# Altium integrated library Linear Technology Operational Amplifiers (LT1000).IntLib: 2280 symbols (part 34 of 79)
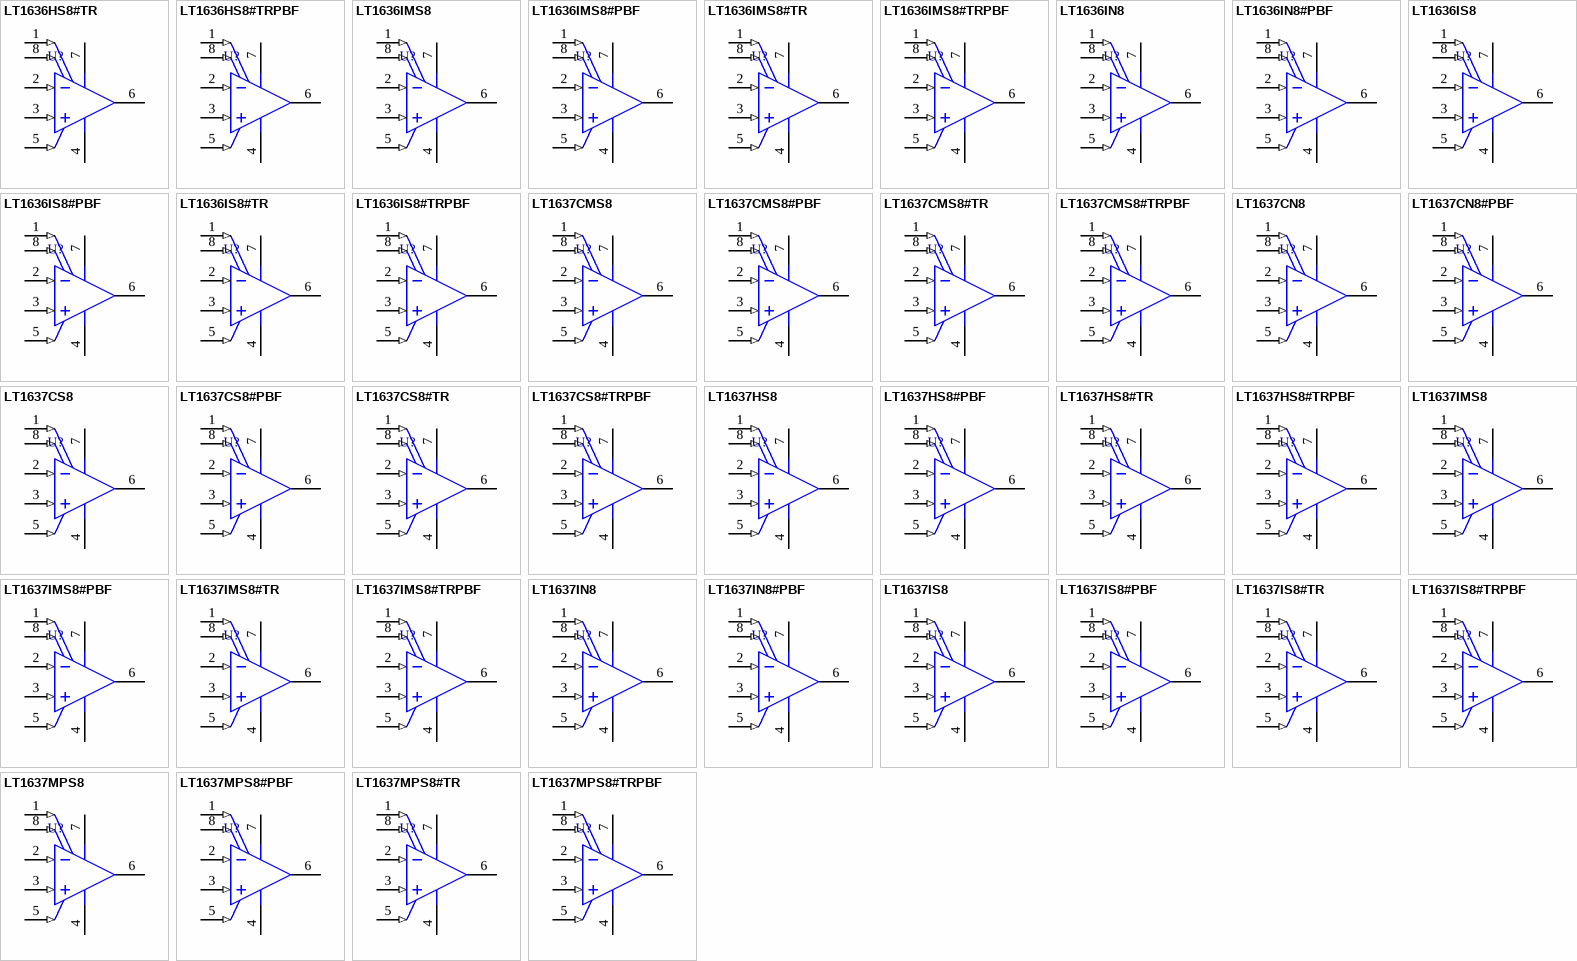
[diagram p138: symbols LT1636HS8#TR to LT1637MPS8#TRPBF]

## LT1636IMS8#TR
designator U?
Single Channel, Micropower Rail-to-Rail Operational Amplifier, 0.2 MHz Typical GBW, 0.07 V/us Typical SR, 2.6 to 44 V, 8-Pin SOP (MS8-8), Industrial, Reel; Linear Technology Part Number: LT1636; Manufacturer: Linear Technology; PartNumber: LT1636IMS8#TR; Channels (#): 1; GBW (MHz) Typical: 0.2; Is (mA) Typical: 0.042; SR (V/us) Typical: 0.07; Vos (mV) Guaranteed: 0.225; Vos (mV) Typical: 0.05; Vs Max (V): 44; Vs Min (V): 2.6; DatasheetVersion: Rev. C; PackageVersion: Rev G; PackageReference: LT-MS8-8; PackageDescription: 8-Lead Plastic Small Outline, Body 3.9 x 4.9 mm, Pitch 1.27 mm; Packing: Reel; Type: VFB; Mounting Technology: Surface Mount; ComponentLink1Description: Manufacturer URL; ComponentLink1URL: http://www.linear.com/; ComponentLink2Description: Datasheet; ComponentLink2URL: http://cds.linear.com/docs/en/datasheet/1636fc.pdf; ComponentLink3Description: Package Specification; ComponentLink3URL: http://cds.linear.com/docs/en/packaging/05081610_G_SO8.pdf
footprint LT-MS8-8_N (SOP, 8-Leads, Body 3x3mm, Pitch 0.65mm, IPC Medium Density)
footprint LT-MS8-8_L (SOP, 8-Leads, Body 3x3mm, Pitch 0.65mm, IPC High Density)
footprint LT-MS8-8_M (SOP, 8-Leads, Body 3x3mm, Pitch 0.65mm, IPC Low Density)
pins: 1 NULL (in), 2 -IN (in), 3 +IN (in), 4 V- (power), 5 SHDN (in), 6 OUT (hiz), 7 V+ (power), 8 NULL (in)

## LT1636IMS8#TRPBF
designator U?
Single Channel, Micropower Rail-to-Rail Operational Amplifier, 0.2 MHz Typical GBW, 0.07 V/us Typical SR, 2.6 to 44 V, 8-Pin SOP (MS8-8), Industrial, Pb-Free, Reel; Linear Technology Part Number: LT1636; Manufacturer: Linear Technology; PartNumber: LT1636IMS8#TRPBF; Channels (#): 1; GBW (MHz) Typical: 0.2; Is (mA) Typical: 0.042; SR (V/us) Typical: 0.07; Vos (mV) Guaranteed: 0.225; Vos (mV) Typical: 0.05; Vs Max (V): 44; Vs Min (V): 2.6; DatasheetVersion: Rev. C; PackageVersion: Rev G; PackageReference: LT-MS8-8; PackageDescription: 8-Lead Plastic Small Outline, Body 3.9 x 4.9 mm, Pitch 1.27 mm; Supplier 1: Digi-Key; Supplier Part Number 1: LT1636IMS8#TRPBF-ND; Packing: Reel; RoHS: Pb-Free; Type: VFB; Mounting Technology: Surface Mount; ComponentLink1Description: Manufacturer URL; ComponentLink1URL: http://www.linear.com/; ComponentLink2Description: Datasheet; ComponentLink2URL: http://cds.linear.com/docs/en/datasheet/1636fc.pdf; ComponentLink3Description: Package Specification; ComponentLink3URL: http://cds.linear.com/docs/en/packaging/05081610_G_SO8.pdf
footprint LT-MS8-8_N (SOP, 8-Leads, Body 3x3mm, Pitch 0.65mm, IPC Medium Density)
footprint LT-MS8-8_L (SOP, 8-Leads, Body 3x3mm, Pitch 0.65mm, IPC High Density)
footprint LT-MS8-8_M (SOP, 8-Leads, Body 3x3mm, Pitch 0.65mm, IPC Low Density)
pins: 1 NULL (in), 2 -IN (in), 3 +IN (in), 4 V- (power), 5 SHDN (in), 6 OUT (hiz), 7 V+ (power), 8 NULL (in)

## LT1636IN8
designator U?
Single Channel, Micropower Rail-to-Rail Operational Amplifier, 0.2 MHz Typical GBW, 0.07 V/us Typical SR, 2.6 to 44 V, 8-Pin DIP (N8-8), Industrial; Linear Technology Part Number: LT1636; Manufacturer: Linear Technology; PartNumber: LT1636IN8; Channels (#): 1; GBW (MHz) Typical: 0.2; Is (mA) Typical: 0.042; SR (V/us) Typical: 0.07; Vos (mV) Guaranteed: 0.225; Vos (mV) Typical: 0.05; Vs Max (V): 44; Vs Min (V): 2.6; DatasheetVersion: Rev. C; PackageVersion: Rev I; PackageReference: LT-N8-8; PackageDescription: 8-Lead PDIP, Body 10.16 x 6.48 mm, Pitch 2.54 mm; Supplier 1: Digi-Key; Supplier Part Number 1: LT1636IN8-ND; Type: VFB; Mounting Technology: Through Hole; ComponentLink1Description: Manufacturer URL; ComponentLink1URL: http://www.linear.com/; ComponentLink2Description: Datasheet; ComponentLink2URL: http://cds.linear.com/docs/en/datasheet/1636fc.pdf; ComponentLink3Description: Package Specification; ComponentLink3URL: http://cds.linear.com/docs/en/packaging/05081510_I_N8.pdf
footprint LT-N8-8 (DIP, 8-Leads, Body 10.16x6.48mm, Pitch 2.54mm)
pins: 1 NULL (in), 2 -IN (in), 3 +IN (in), 4 V- (power), 5 SHDN (in), 6 OUT (hiz), 7 V+ (power), 8 NULL (in)

## LT1636IN8#PBF
designator U?
Single Channel, Micropower Rail-to-Rail Operational Amplifier, 0.2 MHz Typical GBW, 0.07 V/us Typical SR, 2.6 to 44 V, 8-Pin DIP (N8-8), Industrial, Pb-Free; Linear Technology Part Number: LT1636; Manufacturer: Linear Technology; PartNumber: LT1636IN8#PBF; Channels (#): 1; GBW (MHz) Typical: 0.2; Is (mA) Typical: 0.042; SR (V/us) Typical: 0.07; Vos (mV) Guaranteed: 0.225; Vos (mV) Typical: 0.05; Vs Max (V): 44; Vs Min (V): 2.6; DatasheetVersion: Rev. C; PackageVersion: Rev I; PackageReference: LT-N8-8; PackageDescription: 8-Lead PDIP, Body 10.16 x 6.48 mm, Pitch 2.54 mm; Supplier 1: Digi-Key; Supplier Part Number 1: LT1636IN8#PBF-ND; RoHS: Pb-Free; Type: VFB; Mounting Technology: Surface Mount; ComponentLink1Description: Manufacturer URL; ComponentLink1URL: http://www.linear.com/; ComponentLink2Description: Datasheet; ComponentLink2URL: http://cds.linear.com/docs/en/datasheet/1636fc.pdf; ComponentLink3Description: Package Specification; ComponentLink3URL: http://cds.linear.com/docs/en/packaging/05081510_I_N8.pdf
footprint LT-N8-8 (DIP, 8-Leads, Body 10.16x6.48mm, Pitch 2.54mm)
pins: 1 NULL (in), 2 -IN (in), 3 +IN (in), 4 V- (power), 5 SHDN (in), 6 OUT (hiz), 7 V+ (power), 8 NULL (in)

## LT1636IS8
designator U?
Single Channel, Micropower Rail-to-Rail Operational Amplifier, 0.2 MHz Typical GBW, 0.07 V/us Typical SR, 2.6 to 44 V, 8-Pin SOIC (S8-8), Industrial; Linear Technology Part Number: LT1636; Manufacturer: Linear Technology; PartNumber: LT1636IS8; Channels (#): 1; GBW (MHz) Typical: 0.2; Is (mA) Typical: 0.042; SR (V/us) Typical: 0.07; Vos (mV) Guaranteed: 0.225; Vos (mV) Typical: 0.05; Vs Max (V): 44; Vs Min (V): 2.6; DatasheetVersion: Rev. C; PackageVersion: Rev G; PackageReference: LT-S8-8; PackageDescription: 8-Pin Plastic Small Outline, Body 4.9 x 3.9 mm, Pitch 1.27 mm; Supplier 1: Digi-Key; Supplier Part Number 1: LT1636IS8-ND; Type: VFB; Mounting Technology: Surface Mount; ComponentLink1Description: Manufacturer URL; ComponentLink1URL: http://www.linear.com/; ComponentLink2Description: Datasheet; ComponentLink2URL: http://cds.linear.com/docs/en/datasheet/1636fc.pdf; ComponentLink3Description: Package Specification; ComponentLink3URL: http://cds.linear.com/docs/en/packaging/05081610_G_SO8.pdf
footprint LT-S8-8_N (SOIC, 8-Leads, Body 4.9x3.9mm, Pitch 1.27mm, IPC Medium Density)
footprint LT-S8-8_L (SOIC, 8-Leads, Body 4.9x3.9mm, Pitch 1.27mm, IPC High Density)
footprint LT-S8-8_M (SOIC, 8-Leads, Body 4.9x3.9mm, Pitch 1.27mm, IPC Low Density)
pins: 1 NULL (in), 2 -IN (in), 3 +IN (in), 4 V- (power), 5 SHDN (in), 6 OUT (hiz), 7 V+ (power), 8 NULL (in)

## LT1636IS8#PBF
designator U?
Single Channel, Micropower Rail-to-Rail Operational Amplifier, 0.2 MHz Typical GBW, 0.07 V/us Typical SR, 2.6 to 44 V, 8-Pin SOIC (S8-8), Industrial, Pb-Free; Linear Technology Part Number: LT1636; Manufacturer: Linear Technology; PartNumber: LT1636IS8#PBF; Channels (#): 1; GBW (MHz) Typical: 0.2; Is (mA) Typical: 0.042; SR (V/us) Typical: 0.07; Vos (mV) Guaranteed: 0.225; Vos (mV) Typical: 0.05; Vs Max (V): 44; Vs Min (V): 2.6; DatasheetVersion: Rev. C; PackageVersion: Rev G; PackageReference: LT-S8-8; PackageDescription: 8-Pin Plastic Small Outline, Body 4.9 x 3.9 mm, Pitch 1.27 mm; Supplier 1: Digi-Key; Supplier Part Number 1: LT1636IS8#PBF-ND; Supplier 2: Farnell; Supplier Part Number 2: 1663457; Supplier 3: Newark; Supplier Part Number 3: 57M5446; RoHS: Pb-Free; Type: VFB; Mounting Technology: Surface Mount; ComponentLink1Description: Manufacturer URL; ComponentLink1URL: http://www.linear.com/; ComponentLink2Description: Datasheet; ComponentLink2URL: http://cds.linear.com/docs/en/datasheet/1636fc.pdf; ComponentLink3Description: Package Specification; ComponentLink3URL: http://cds.linear.com/docs/en/packaging/05081610_G_SO8.pdf
footprint LT-S8-8_N (SOIC, 8-Leads, Body 4.9x3.9mm, Pitch 1.27mm, IPC Medium Density)
footprint LT-S8-8_L (SOIC, 8-Leads, Body 4.9x3.9mm, Pitch 1.27mm, IPC High Density)
footprint LT-S8-8_M (SOIC, 8-Leads, Body 4.9x3.9mm, Pitch 1.27mm, IPC Low Density)
pins: 1 NULL (in), 2 -IN (in), 3 +IN (in), 4 V- (power), 5 SHDN (in), 6 OUT (hiz), 7 V+ (power), 8 NULL (in)

## LT1636IS8#TR
designator U?
Single Channel, Micropower Rail-to-Rail Operational Amplifier, 0.2 MHz Typical GBW, 0.07 V/us Typical SR, 2.6 to 44 V, 8-Pin SOIC (S8-8), Industrial, Reel; Linear Technology Part Number: LT1636; Manufacturer: Linear Technology; PartNumber: LT1636IS8#TR; Channels (#): 1; GBW (MHz) Typical: 0.2; Is (mA) Typical: 0.042; SR (V/us) Typical: 0.07; Vos (mV) Guaranteed: 0.225; Vos (mV) Typical: 0.05; Vs Max (V): 44; Vs Min (V): 2.6; DatasheetVersion: Rev. C; PackageVersion: Rev G; PackageReference: LT-S8-8; PackageDescription: 8-Pin Plastic Small Outline, Body 4.9 x 3.9 mm, Pitch 1.27 mm; Supplier 1: Digi-Key; Supplier Part Number 1: LT1636IS8#TR-ND; Packing: Reel; Type: VFB; Mounting Technology: Surface Mount; ComponentLink1Description: Manufacturer URL; ComponentLink1URL: http://www.linear.com/; ComponentLink2Description: Datasheet; ComponentLink2URL: http://cds.linear.com/docs/en/datasheet/1636fc.pdf; ComponentLink3Description: Package Specification; ComponentLink3URL: http://cds.linear.com/docs/en/packaging/05081610_G_SO8.pdf
footprint LT-S8-8_N (SOIC, 8-Leads, Body 4.9x3.9mm, Pitch 1.27mm, IPC Medium Density)
footprint LT-S8-8_L (SOIC, 8-Leads, Body 4.9x3.9mm, Pitch 1.27mm, IPC High Density)
footprint LT-S8-8_M (SOIC, 8-Leads, Body 4.9x3.9mm, Pitch 1.27mm, IPC Low Density)
pins: 1 NULL (in), 2 -IN (in), 3 +IN (in), 4 V- (power), 5 SHDN (in), 6 OUT (hiz), 7 V+ (power), 8 NULL (in)

## LT1636IS8#TRPBF
designator U?
Single Channel, Micropower Rail-to-Rail Operational Amplifier, 0.2 MHz Typical GBW, 0.07 V/us Typical SR, 2.6 to 44 V, 8-Pin SOIC (S8-8), Industrial, Pb-Free, Reel; Linear Technology Part Number: LT1636; Manufacturer: Linear Technology; PartNumber: LT1636IS8#TRPBF; Channels (#): 1; GBW (MHz) Typical: 0.2; Is (mA) Typical: 0.042; SR (V/us) Typical: 0.07; Vos (mV) Guaranteed: 0.225; Vos (mV) Typical: 0.05; Vs Max (V): 44; Vs Min (V): 2.6; DatasheetVersion: Rev. C; PackageVersion: Rev G; PackageReference: LT-S8-8; PackageDescription: 8-Pin Plastic Small Outline, Body 4.9 x 3.9 mm, Pitch 1.27 mm; Supplier 1: Digi-Key; Supplier Part Number 1: LT1636IS8#TRPBF-ND; Supplier 2: Newark; Supplier Part Number 2: 57M5448; Packing: Reel; RoHS: Pb-Free; Type: VFB; Mounting Technology: Surface Mount; ComponentLink1Description: Manufacturer URL; ComponentLink1URL: http://www.linear.com/; ComponentLink2Description: Datasheet; ComponentLink2URL: http://cds.linear.com/docs/en/datasheet/1636fc.pdf; ComponentLink3Description: Package Specification; ComponentLink3URL: http://cds.linear.com/docs/en/packaging/05081610_G_SO8.pdf
footprint LT-S8-8_N (SOIC, 8-Leads, Body 4.9x3.9mm, Pitch 1.27mm, IPC Medium Density)
footprint LT-S8-8_L (SOIC, 8-Leads, Body 4.9x3.9mm, Pitch 1.27mm, IPC High Density)
footprint LT-S8-8_M (SOIC, 8-Leads, Body 4.9x3.9mm, Pitch 1.27mm, IPC Low Density)
pins: 1 NULL (in), 2 -IN (in), 3 +IN (in), 4 V- (power), 5 SHDN (in), 6 OUT (hiz), 7 V+ (power), 8 NULL (in)

## LT1637CMS8
designator U?
Single Channel, High Voltage, Micropower Rail-to-Rail Operational Amplifier, 1 MHz Typical GBW, 0.35 V/us Typical SR, 1.8 to 44 V, 8-Pin SOP (MS8-8), Commerical; Linear Technology Part Number: LT1637; Manufacturer: Linear Technology; PartNumber: LT1637CMS8; Channels (#): 1; Is (mA) Typical: 0.19; SR (V/us) Typical: 0.35; Vos (mV) Typical: 0.1; Vs Max (V): 44; Vs Min (V): 1.8; DatasheetVersion: Rev. D; PackageVersion: Rev G; PackageReference: LT-MS8-8; PackageDescription: 8-Lead Plastic Small Outline, Body 3.9 x 4.9 mm, Pitch 1.27 mm; Supplier 1: Digi-Key; Supplier Part Number 1: LT1637CMS8-ND; GBW (MHz) Typical: 1; Type: VFB; Vos (mV) Guaranteed: 0.35; Mounting Technology: Surface Mount; ComponentLink1Description: Manufacturer URL; ComponentLink1URL: http://www.linear.com/; ComponentLink2Description: Datasheet; ComponentLink2URL: http://cds.linear.com/docs/en/datasheet/1637fd.pdf; ComponentLink3Description: Package Specification; ComponentLink3URL: http://cds.linear.com/docs/en/packaging/05081610_G_SO8.pdf
footprint LT-MS8-8_N (SOP, 8-Leads, Body 3x3mm, Pitch 0.65mm, IPC Medium Density)
footprint LT-MS8-8_L (SOP, 8-Leads, Body 3x3mm, Pitch 0.65mm, IPC High Density)
footprint LT-MS8-8_M (SOP, 8-Leads, Body 3x3mm, Pitch 0.65mm, IPC Low Density)
pins: 1 NULL (in), 2 -IN (in), 3 +IN (in), 4 V- (power), 5 SHDN (in), 6 OUT (hiz), 7 V+ (power), 8 NULL (in)

## LT1637CMS8#PBF
designator U?
Single Channel, High Voltage, Micropower Rail-to-Rail Operational Amplifier, 1 MHz Typical GBW, 0.35 V/us Typical SR, 1.8 to 44 V, 8-Pin SOP (MS8-8), Commercial, Pb-Free; Linear Technology Part Number: LT1637; Manufacturer: Linear Technology; PartNumber: LT1637CMS8#PBF; Channels (#): 1; Is (mA) Typical: 0.19; SR (V/us) Typical: 0.35; Vos (mV) Typical: 0.1; Vs Max (V): 44; Vs Min (V): 1.8; DatasheetVersion: Rev. D; PackageVersion: Rev G; PackageReference: LT-MS8-8; PackageDescription: 8-Lead Plastic Small Outline, Body 3.9 x 4.9 mm, Pitch 1.27 mm; Supplier 1: Digi-Key; Supplier Part Number 1: LT1637CMS8#PBF-ND; Supplier 2: Newark; Supplier Part Number 2: 57M5454; GBW (MHz) Typical: 1; RoHS: Pb-Free; Type: VFB; Vos (mV) Guaranteed: 0.35; Mounting Technology: Surface Mount; ComponentLink1Description: Manufacturer URL; ComponentLink1URL: http://www.linear.com/; ComponentLink2Description: Datasheet; ComponentLink2URL: http://cds.linear.com/docs/en/datasheet/1637fd.pdf; ComponentLink3Description: Package Specification; ComponentLink3URL: http://cds.linear.com/docs/en/packaging/05081610_G_SO8.pdf
footprint LT-MS8-8_N (SOP, 8-Leads, Body 3x3mm, Pitch 0.65mm, IPC Medium Density)
footprint LT-MS8-8_L (SOP, 8-Leads, Body 3x3mm, Pitch 0.65mm, IPC High Density)
footprint LT-MS8-8_M (SOP, 8-Leads, Body 3x3mm, Pitch 0.65mm, IPC Low Density)
pins: 1 NULL (in), 2 -IN (in), 3 +IN (in), 4 V- (power), 5 SHDN (in), 6 OUT (hiz), 7 V+ (power), 8 NULL (in)

## LT1637CMS8#TR
designator U?
Single Channel, High Voltage, Micropower Rail-to-Rail Operational Amplifier, 1 MHz Typical GBW, 0.35 V/us Typical SR, 1.8 to 44 V, 8-Pin SOP (MS8-8), Commerical, Reel; Linear Technology Part Number: LT1637; Manufacturer: Linear Technology; PartNumber: LT1637CMS8#TR; Channels (#): 1; Is (mA) Typical: 0.19; SR (V/us) Typical: 0.35; Vos (mV) Typical: 0.1; Vs Max (V): 44; Vs Min (V): 1.8; DatasheetVersion: Rev. D; PackageVersion: Rev G; PackageReference: LT-MS8-8; PackageDescription: 8-Lead Plastic Small Outline, Body 3.9 x 4.9 mm, Pitch 1.27 mm; Supplier 1: Digi-Key; Supplier Part Number 1: LT1637CMS8#TR-ND; GBW (MHz) Typical: 1; Packing: Reel; Type: VFB; Vos (mV) Guaranteed: 0.35; Mounting Technology: Surface Mount; ComponentLink1Description: Manufacturer URL; ComponentLink1URL: http://www.linear.com/; ComponentLink2Description: Datasheet; ComponentLink2URL: http://cds.linear.com/docs/en/datasheet/1637fd.pdf; ComponentLink3Description: Package Specification; ComponentLink3URL: http://cds.linear.com/docs/en/packaging/05081610_G_SO8.pdf
footprint LT-MS8-8_N (SOP, 8-Leads, Body 3x3mm, Pitch 0.65mm, IPC Medium Density)
footprint LT-MS8-8_L (SOP, 8-Leads, Body 3x3mm, Pitch 0.65mm, IPC High Density)
footprint LT-MS8-8_M (SOP, 8-Leads, Body 3x3mm, Pitch 0.65mm, IPC Low Density)
pins: 1 NULL (in), 2 -IN (in), 3 +IN (in), 4 V- (power), 5 SHDN (in), 6 OUT (hiz), 7 V+ (power), 8 NULL (in)

## LT1637CMS8#TRPBF
designator U?
Single Channel, High Voltage, Micropower Rail-to-Rail Operational Amplifier, 1 MHz Typical GBW, 0.35 V/us Typical SR, 1.8 to 44 V, 8-Pin SOP (MS8-8), Commercial, Pb-Free, Reel; Linear Technology Part Number: LT1637; Manufacturer: Linear Technology; PartNumber: LT1637CMS8#TRPBF; Channels (#): 1; Is (mA) Typical: 0.19; SR (V/us) Typical: 0.35; Vos (mV) Typical: 0.1; Vs Max (V): 44; Vs Min (V): 1.8; DatasheetVersion: Rev. D; PackageVersion: Rev G; PackageReference: LT-MS8-8; PackageDescription: 8-Lead Plastic Small Outline, Body 3.9 x 4.9 mm, Pitch 1.27 mm; Supplier 1: Digi-Key; Supplier Part Number 1: LT1637CMS8#TRPBF-ND; GBW (MHz) Typical: 1; Packing: Reel; RoHS: Pb-Free; Type: VFB; Vos (mV) Guaranteed: 0.35; Mounting Technology: Surface Mount; ComponentLink1Description: Manufacturer URL; ComponentLink1URL: http://www.linear.com/; ComponentLink2Description: Datasheet; ComponentLink2URL: http://cds.linear.com/docs/en/datasheet/1637fd.pdf; ComponentLink3Description: Package Specification; ComponentLink3URL: http://cds.linear.com/docs/en/packaging/05081610_G_SO8.pdf
footprint LT-MS8-8_N (SOP, 8-Leads, Body 3x3mm, Pitch 0.65mm, IPC Medium Density)
footprint LT-MS8-8_L (SOP, 8-Leads, Body 3x3mm, Pitch 0.65mm, IPC High Density)
footprint LT-MS8-8_M (SOP, 8-Leads, Body 3x3mm, Pitch 0.65mm, IPC Low Density)
pins: 1 NULL (in), 2 -IN (in), 3 +IN (in), 4 V- (power), 5 SHDN (in), 6 OUT (hiz), 7 V+ (power), 8 NULL (in)

## LT1637CN8
designator U?
Single Channel, High Voltage, Micropower Rail-to-Rail Operational Amplifier, 1 MHz Typical GBW, 0.35 V/us Typical SR, 1.8 to 44 V, 8-Pin DIP (N8-8), Commerical; Linear Technology Part Number: LT1637; Manufacturer: Linear Technology; PartNumber: LT1637CN8; Channels (#): 1; Is (mA) Typical: 0.19; SR (V/us) Typical: 0.35; Vos (mV) Typical: 0.1; Vs Max (V): 44; Vs Min (V): 1.8; DatasheetVersion: Rev. D; PackageVersion: Rev I; PackageReference: LT-N8-8; PackageDescription: 8-Lead PDIP, Body 10.16 x 6.48 mm, Pitch 2.54 mm; Supplier 1: Digi-Key; Supplier Part Number 1: LT1637CN8-ND; GBW (MHz) Typical: 1; Type: VFB; Vos (mV) Guaranteed: 0.35; Mounting Technology: Through Hole; ComponentLink1Description: Manufacturer URL; ComponentLink1URL: http://www.linear.com/; ComponentLink2Description: Datasheet; ComponentLink2URL: http://cds.linear.com/docs/en/datasheet/1637fd.pdf; ComponentLink3Description: Package Specification; ComponentLink3URL: http://cds.linear.com/docs/en/packaging/05081510_I_N8.pdf
footprint LT-N8-8 (DIP, 8-Leads, Body 10.16x6.48mm, Pitch 2.54mm)
pins: 1 NULL (in), 2 -IN (in), 3 +IN (in), 4 V- (power), 5 SHDN (in), 6 OUT (hiz), 7 V+ (power), 8 NULL (in)

## LT1637CN8#PBF
designator U?
Single Channel, High Voltage, Micropower Rail-to-Rail Operational Amplifier, 1 MHz Typical GBW, 0.35 V/us Typical SR, 1.8 to 44 V, 8-Pin DIP (N8-8), Commercial, Pb-Free; Linear Technology Part Number: LT1637; Manufacturer: Linear Technology; PartNumber: LT1637CN8#PBF; Channels (#): 1; Is (mA) Typical: 0.19; SR (V/us) Typical: 0.35; Vos (mV) Typical: 0.1; Vs Max (V): 44; Vs Min (V): 1.8; DatasheetVersion: Rev. D; PackageVersion: Rev I; PackageReference: LT-N8-8; PackageDescription: 8-Lead PDIP, Body 10.16 x 6.48 mm, Pitch 2.54 mm; Supplier 1: Digi-Key; Supplier Part Number 1: LT1637CN8#PBF-ND; GBW (MHz) Typical: 1; RoHS: Pb-Free; Type: VFB; Vos (mV) Guaranteed: 0.35; Mounting Technology: Surface Mount; ComponentLink1Description: Manufacturer URL; ComponentLink1URL: http://www.linear.com/; ComponentLink2Description: Datasheet; ComponentLink2URL: http://cds.linear.com/docs/en/datasheet/1637fd.pdf; ComponentLink3Description: Package Specification; ComponentLink3URL: http://cds.linear.com/docs/en/packaging/05081510_I_N8.pdf
footprint LT-N8-8 (DIP, 8-Leads, Body 10.16x6.48mm, Pitch 2.54mm)
pins: 1 NULL (in), 2 -IN (in), 3 +IN (in), 4 V- (power), 5 SHDN (in), 6 OUT (hiz), 7 V+ (power), 8 NULL (in)

## LT1637CS8
designator U?
Single Channel, High Voltage, Micropower Rail-to-Rail Operational Amplifier, 1 MHz Typical GBW, 0.35 V/us Typical SR, 1.8 to 44 V, 8-Pin SOIC (S8-8), Commerical; Linear Technology Part Number: LT1637; Manufacturer: Linear Technology; PartNumber: LT1637CS8; Channels (#): 1; Is (mA) Typical: 0.19; SR (V/us) Typical: 0.35; Vos (mV) Typical: 0.1; Vs Max (V): 44; Vs Min (V): 1.8; DatasheetVersion: Rev. D; PackageVersion: Rev G; PackageReference: LT-S8-8; PackageDescription: 8-Pin Plastic Small Outline, Body 4.9 x 3.9 mm, Pitch 1.27 mm; Supplier 1: Digi-Key; Supplier Part Number 1: LT1637CS8-ND; GBW (MHz) Typical: 1; Type: VFB; Vos (mV) Guaranteed: 0.35; Mounting Technology: Surface Mount; ComponentLink1Description: Manufacturer URL; ComponentLink1URL: http://www.linear.com/; ComponentLink2Description: Datasheet; ComponentLink2URL: http://cds.linear.com/docs/en/datasheet/1637fd.pdf; ComponentLink3Description: Package Specification; ComponentLink3URL: http://cds.linear.com/docs/en/packaging/05081610_G_SO8.pdf
footprint LT-S8-8_N (SOIC, 8-Leads, Body 4.9x3.9mm, Pitch 1.27mm, IPC Medium Density)
footprint LT-S8-8_L (SOIC, 8-Leads, Body 4.9x3.9mm, Pitch 1.27mm, IPC High Density)
footprint LT-S8-8_M (SOIC, 8-Leads, Body 4.9x3.9mm, Pitch 1.27mm, IPC Low Density)
pins: 1 NULL (in), 2 -IN (in), 3 +IN (in), 4 V- (power), 5 SHDN (in), 6 OUT (hiz), 7 V+ (power), 8 NULL (in)

## LT1637CS8#PBF
designator U?
Single Channel, High Voltage, Micropower Rail-to-Rail Operational Amplifier, 1 MHz Typical GBW, 0.35 V/us Typical SR, 1.8 to 44 V, 8-Pin SOIC (S8-8), Commercial, Pb-Free; Linear Technology Part Number: LT1637; Manufacturer: Linear Technology; PartNumber: LT1637CS8#PBF; Channels (#): 1; Is (mA) Typical: 0.19; SR (V/us) Typical: 0.35; Vos (mV) Typical: 0.1; Vs Max (V): 44; Vs Min (V): 1.8; DatasheetVersion: Rev. D; PackageVersion: Rev G; PackageReference: LT-S8-8; PackageDescription: 8-Pin Plastic Small Outline, Body 4.9 x 3.9 mm, Pitch 1.27 mm; Supplier 1: Digi-Key; Supplier Part Number 1: LT1637CS8#PBF-ND; Supplier 2: Farnell; Supplier Part Number 2: 1663459; Supplier 3: Newark; Supplier Part Number 3: 57M5460; GBW (MHz) Typical: 1; RoHS: Pb-Free; Type: VFB; Vos (mV) Guaranteed: 0.35; Mounting Technology: Surface Mount; ComponentLink1Description: Manufacturer URL; ComponentLink1URL: http://www.linear.com/; ComponentLink2Description: Datasheet; ComponentLink2URL: http://cds.linear.com/docs/en/datasheet/1637fd.pdf; ComponentLink3Description: Package Specification; ComponentLink3URL: http://cds.linear.com/docs/en/packaging/05081610_G_SO8.pdf
footprint LT-S8-8_N (SOIC, 8-Leads, Body 4.9x3.9mm, Pitch 1.27mm, IPC Medium Density)
footprint LT-S8-8_L (SOIC, 8-Leads, Body 4.9x3.9mm, Pitch 1.27mm, IPC High Density)
footprint LT-S8-8_M (SOIC, 8-Leads, Body 4.9x3.9mm, Pitch 1.27mm, IPC Low Density)
pins: 1 NULL (in), 2 -IN (in), 3 +IN (in), 4 V- (power), 5 SHDN (in), 6 OUT (hiz), 7 V+ (power), 8 NULL (in)

## LT1637CS8#TR
designator U?
Single Channel, High Voltage, Micropower Rail-to-Rail Operational Amplifier, 1 MHz Typical GBW, 0.35 V/us Typical SR, 1.8 to 44 V, 8-Pin SOIC (S8-8), Commerical, Reel; Linear Technology Part Number: LT1637; Manufacturer: Linear Technology; PartNumber: LT1637CS8#TR; Channels (#): 1; Is (mA) Typical: 0.19; SR (V/us) Typical: 0.35; Vos (mV) Typical: 0.1; Vs Max (V): 44; Vs Min (V): 1.8; DatasheetVersion: Rev. D; PackageVersion: Rev G; PackageReference: LT-S8-8; PackageDescription: 8-Pin Plastic Small Outline, Body 4.9 x 3.9 mm, Pitch 1.27 mm; Supplier 1: Digi-Key; Supplier Part Number 1: LT1637CS8#TR-ND; GBW (MHz) Typical: 1; Packing: Reel; Type: VFB; Vos (mV) Guaranteed: 0.35; Mounting Technology: Surface Mount; ComponentLink1Description: Manufacturer URL; ComponentLink1URL: http://www.linear.com/; ComponentLink2Description: Datasheet; ComponentLink2URL: http://cds.linear.com/docs/en/datasheet/1637fd.pdf; ComponentLink3Description: Package Specification; ComponentLink3URL: http://cds.linear.com/docs/en/packaging/05081610_G_SO8.pdf
footprint LT-S8-8_N (SOIC, 8-Leads, Body 4.9x3.9mm, Pitch 1.27mm, IPC Medium Density)
footprint LT-S8-8_L (SOIC, 8-Leads, Body 4.9x3.9mm, Pitch 1.27mm, IPC High Density)
footprint LT-S8-8_M (SOIC, 8-Leads, Body 4.9x3.9mm, Pitch 1.27mm, IPC Low Density)
pins: 1 NULL (in), 2 -IN (in), 3 +IN (in), 4 V- (power), 5 SHDN (in), 6 OUT (hiz), 7 V+ (power), 8 NULL (in)

## LT1637CS8#TRPBF
designator U?
Single Channel, High Voltage, Micropower Rail-to-Rail Operational Amplifier, 1 MHz Typical GBW, 0.35 V/us Typical SR, 1.8 to 44 V, 8-Pin SOIC (S8-8), Commercial, Pb-Free, Reel; Linear Technology Part Number: LT1637; Manufacturer: Linear Technology; PartNumber: LT1637CS8#TRPBF; Channels (#): 1; Is (mA) Typical: 0.19; SR (V/us) Typical: 0.35; Vos (mV) Typical: 0.1; Vs Max (V): 44; Vs Min (V): 1.8; DatasheetVersion: Rev. D; PackageVersion: Rev G; PackageReference: LT-S8-8; PackageDescription: 8-Pin Plastic Small Outline, Body 4.9 x 3.9 mm, Pitch 1.27 mm; Supplier 1: Digi-Key; Supplier Part Number 1: LT1637CS8#TRPBF-ND; Supplier 2: Newark; Supplier Part Number 2: 57M5462; GBW (MHz) Typical: 1; Packing: Reel; RoHS: Pb-Free; Type: VFB; Vos (mV) Guaranteed: 0.35; Mounting Technology: Surface Mount; ComponentLink1Description: Manufacturer URL; ComponentLink1URL: http://www.linear.com/; ComponentLink2Description: Datasheet; ComponentLink2URL: http://cds.linear.com/docs/en/datasheet/1637fd.pdf; ComponentLink3Description: Package Specification; ComponentLink3URL: http://cds.linear.com/docs/en/packaging/05081610_G_SO8.pdf
footprint LT-S8-8_N (SOIC, 8-Leads, Body 4.9x3.9mm, Pitch 1.27mm, IPC Medium Density)
footprint LT-S8-8_L (SOIC, 8-Leads, Body 4.9x3.9mm, Pitch 1.27mm, IPC High Density)
footprint LT-S8-8_M (SOIC, 8-Leads, Body 4.9x3.9mm, Pitch 1.27mm, IPC Low Density)
pins: 1 NULL (in), 2 -IN (in), 3 +IN (in), 4 V- (power), 5 SHDN (in), 6 OUT (hiz), 7 V+ (power), 8 NULL (in)

## LT1637HS8
designator U?
Single Channel, High Voltage, Micropower Rail-to-Rail Operational Amplifier, 1 MHz Typical GBW, 0.35 V/us Typical SR, 1.8 to 44 V, 8-Pin SOIC (S8-8), High Temperature / Automotive; Linear Technology Part Number: LT1637; Manufacturer: Linear Technology; PartNumber: LT1637HS8; Channels (#): 1; Is (mA) Typical: 0.19; SR (V/us) Typical: 0.35; Vos (mV) Typical: 0.1; Vs Max (V): 44; Vs Min (V): 1.8; DatasheetVersion: Rev. D; PackageVersion: Rev G; PackageReference: LT-S8-8; PackageDescription: 8-Pin Plastic Small Outline, Body 4.9 x 3.9 mm, Pitch 1.27 mm; Supplier 1: Digi-Key; Supplier Part Number 1: LT1637HS8-ND; GBW (MHz) Typical: 1; Type: VFB; Vos (mV) Guaranteed: 0.35; Mounting Technology: Surface Mount; ComponentLink1Description: Manufacturer URL; ComponentLink1URL: http://www.linear.com/; ComponentLink2Description: Datasheet; ComponentLink2URL: http://cds.linear.com/docs/en/datasheet/1637fd.pdf; ComponentLink3Description: Package Specification; ComponentLink3URL: http://cds.linear.com/docs/en/packaging/05081610_G_SO8.pdf
footprint LT-S8-8_N (SOIC, 8-Leads, Body 4.9x3.9mm, Pitch 1.27mm, IPC Medium Density)
footprint LT-S8-8_L (SOIC, 8-Leads, Body 4.9x3.9mm, Pitch 1.27mm, IPC High Density)
footprint LT-S8-8_M (SOIC, 8-Leads, Body 4.9x3.9mm, Pitch 1.27mm, IPC Low Density)
pins: 1 NULL (in), 2 -IN (in), 3 +IN (in), 4 V- (power), 5 SHDN (in), 6 OUT (hiz), 7 V+ (power), 8 NULL (in)

## LT1637HS8#PBF
designator U?
Single Channel, High Voltage, Micropower Rail-to-Rail Operational Amplifier, 1 MHz Typical GBW, 0.35 V/us Typical SR, 1.8 to 44 V, 8-Pin SOIC (S8-8), High Temperature / Automotive, Pb-Free; Linear Technology Part Number: LT1637; Manufacturer: Linear Technology; PartNumber: LT1637HS8#PBF; Channels (#): 1; Is (mA) Typical: 0.19; SR (V/us) Typical: 0.35; Vos (mV) Typical: 0.1; Vs Max (V): 44; Vs Min (V): 1.8; DatasheetVersion: Rev. D; PackageVersion: Rev G; PackageReference: LT-S8-8; PackageDescription: 8-Pin Plastic Small Outline, Body 4.9 x 3.9 mm, Pitch 1.27 mm; Supplier 1: Digi-Key; Supplier Part Number 1: LT1637HS8#PBF-ND; Supplier 2: Newark; Supplier Part Number 2: 57M5464; GBW (MHz) Typical: 1; RoHS: Pb-Free; Type: VFB; Vos (mV) Guaranteed: 0.35; Mounting Technology: Surface Mount; ComponentLink1Description: Manufacturer URL; ComponentLink1URL: http://www.linear.com/; ComponentLink2Description: Datasheet; ComponentLink2URL: http://cds.linear.com/docs/en/datasheet/1637fd.pdf; ComponentLink3Description: Package Specification; ComponentLink3URL: http://cds.linear.com/docs/en/packaging/05081610_G_SO8.pdf
footprint LT-S8-8_N (SOIC, 8-Leads, Body 4.9x3.9mm, Pitch 1.27mm, IPC Medium Density)
footprint LT-S8-8_L (SOIC, 8-Leads, Body 4.9x3.9mm, Pitch 1.27mm, IPC High Density)
footprint LT-S8-8_M (SOIC, 8-Leads, Body 4.9x3.9mm, Pitch 1.27mm, IPC Low Density)
pins: 1 NULL (in), 2 -IN (in), 3 +IN (in), 4 V- (power), 5 SHDN (in), 6 OUT (hiz), 7 V+ (power), 8 NULL (in)

## LT1637HS8#TR
designator U?
Single Channel, High Voltage, Micropower Rail-to-Rail Operational Amplifier, 1 MHz Typical GBW, 0.35 V/us Typical SR, 1.8 to 44 V, 8-Pin SOIC (S8-8), High Temperature / Automotive, Reel; Linear Technology Part Number: LT1637; Manufacturer: Linear Technology; PartNumber: LT1637HS8#TR; Channels (#): 1; Is (mA) Typical: 0.19; SR (V/us) Typical: 0.35; Vos (mV) Typical: 0.1; Vs Max (V): 44; Vs Min (V): 1.8; DatasheetVersion: Rev. D; PackageVersion: Rev G; PackageReference: LT-S8-8; PackageDescription: 8-Pin Plastic Small Outline, Body 4.9 x 3.9 mm, Pitch 1.27 mm; Supplier 1: Digi-Key; Supplier Part Number 1: LT1637HS8TR-ND; GBW (MHz) Typical: 1; Packing: Reel; Type: VFB; Vos (mV) Guaranteed: 0.35; Mounting Technology: Surface Mount; ComponentLink1Description: Manufacturer URL; ComponentLink1URL: http://www.linear.com/; ComponentLink2Description: Datasheet; ComponentLink2URL: http://cds.linear.com/docs/en/datasheet/1637fd.pdf; ComponentLink3Description: Package Specification; ComponentLink3URL: http://cds.linear.com/docs/en/packaging/05081610_G_SO8.pdf
footprint LT-S8-8_N (SOIC, 8-Leads, Body 4.9x3.9mm, Pitch 1.27mm, IPC Medium Density)
footprint LT-S8-8_L (SOIC, 8-Leads, Body 4.9x3.9mm, Pitch 1.27mm, IPC High Density)
footprint LT-S8-8_M (SOIC, 8-Leads, Body 4.9x3.9mm, Pitch 1.27mm, IPC Low Density)
pins: 1 NULL (in), 2 -IN (in), 3 +IN (in), 4 V- (power), 5 SHDN (in), 6 OUT (hiz), 7 V+ (power), 8 NULL (in)

## LT1637HS8#TRPBF
designator U?
Single Channel, High Voltage, Micropower Rail-to-Rail Operational Amplifier, 1 MHz Typical GBW, 0.35 V/us Typical SR, 1.8 to 44 V, 8-Pin SOIC (S8-8), High Temperature / Automotive, Pb-Free, Reel; Linear Technology Part Number: LT1637; Manufacturer: Linear Technology; PartNumber: LT1637HS8#TRPBF; Channels (#): 1; Is (mA) Typical: 0.19; SR (V/us) Typical: 0.35; Vos (mV) Typical: 0.1; Vs Max (V): 44; Vs Min (V): 1.8; DatasheetVersion: Rev. D; PackageVersion: Rev G; PackageReference: LT-S8-8; PackageDescription: 8-Pin Plastic Small Outline, Body 4.9 x 3.9 mm, Pitch 1.27 mm; Supplier 1: Digi-Key; Supplier Part Number 1: LT1637HS8#TRPBF-ND; Supplier 2: Newark; Supplier Part Number 2: 57M5466; GBW (MHz) Typical: 1; Packing: Reel; RoHS: Pb-Free; Type: VFB; Vos (mV) Guaranteed: 0.35; Mounting Technology: Surface Mount; ComponentLink1Description: Manufacturer URL; ComponentLink1URL: http://www.linear.com/; ComponentLink2Description: Datasheet; ComponentLink2URL: http://cds.linear.com/docs/en/datasheet/1637fd.pdf; ComponentLink3Description: Package Specification; ComponentLink3URL: http://cds.linear.com/docs/en/packaging/05081610_G_SO8.pdf
footprint LT-S8-8_N (SOIC, 8-Leads, Body 4.9x3.9mm, Pitch 1.27mm, IPC Medium Density)
footprint LT-S8-8_L (SOIC, 8-Leads, Body 4.9x3.9mm, Pitch 1.27mm, IPC High Density)
footprint LT-S8-8_M (SOIC, 8-Leads, Body 4.9x3.9mm, Pitch 1.27mm, IPC Low Density)
pins: 1 NULL (in), 2 -IN (in), 3 +IN (in), 4 V- (power), 5 SHDN (in), 6 OUT (hiz), 7 V+ (power), 8 NULL (in)

## LT1637IMS8
designator U?
Single Channel, High Voltage, Micropower Rail-to-Rail Operational Amplifier, 1 MHz Typical GBW, 0.35 V/us Typical SR, 1.8 to 44 V, 8-Pin SOP (MS8-8), Industrial; Linear Technology Part Number: LT1637; Manufacturer: Linear Technology; PartNumber: LT1637IMS8; Channels (#): 1; Is (mA) Typical: 0.19; SR (V/us) Typical: 0.35; Vos (mV) Typical: 0.1; Vs Max (V): 44; Vs Min (V): 1.8; DatasheetVersion: Rev. D; PackageVersion: Rev G; PackageReference: LT-MS8-8; PackageDescription: 8-Lead Plastic Small Outline, Body 3.9 x 4.9 mm, Pitch 1.27 mm; GBW (MHz) Typical: 1; Type: VFB; Vos (mV) Guaranteed: 0.35; Mounting Technology: Surface Mount; ComponentLink1Description: Manufacturer URL; ComponentLink1URL: http://www.linear.com/; ComponentLink2Description: Datasheet; ComponentLink2URL: http://cds.linear.com/docs/en/datasheet/1637fd.pdf; ComponentLink3Description: Package Specification; ComponentLink3URL: http://cds.linear.com/docs/en/packaging/05081610_G_SO8.pdf
footprint LT-MS8-8_N (SOP, 8-Leads, Body 3x3mm, Pitch 0.65mm, IPC Medium Density)
footprint LT-MS8-8_L (SOP, 8-Leads, Body 3x3mm, Pitch 0.65mm, IPC High Density)
footprint LT-MS8-8_M (SOP, 8-Leads, Body 3x3mm, Pitch 0.65mm, IPC Low Density)
pins: 1 NULL (in), 2 -IN (in), 3 +IN (in), 4 V- (power), 5 SHDN (in), 6 OUT (hiz), 7 V+ (power), 8 NULL (in)

## LT1637IMS8#PBF
designator U?
Single Channel, High Voltage, Micropower Rail-to-Rail Operational Amplifier, 1 MHz Typical GBW, 0.35 V/us Typical SR, 1.8 to 44 V, 8-Pin SOP (MS8-8), Industrial, Pb-Free; Linear Technology Part Number: LT1637; Manufacturer: Linear Technology; PartNumber: LT1637IMS8#PBF; Channels (#): 1; Is (mA) Typical: 0.19; SR (V/us) Typical: 0.35; Vos (mV) Typical: 0.1; Vs Max (V): 44; Vs Min (V): 1.8; DatasheetVersion: Rev. D; PackageVersion: Rev G; PackageReference: LT-MS8-8; PackageDescription: 8-Lead Plastic Small Outline, Body 3.9 x 4.9 mm, Pitch 1.27 mm; Supplier 1: Digi-Key; Supplier Part Number 1: LT1637IMS8#PBF-ND; GBW (MHz) Typical: 1; RoHS: Pb-Free; Type: VFB; Vos (mV) Guaranteed: 0.35; Mounting Technology: Surface Mount; ComponentLink1Description: Manufacturer URL; ComponentLink1URL: http://www.linear.com/; ComponentLink2Description: Datasheet; ComponentLink2URL: http://cds.linear.com/docs/en/datasheet/1637fd.pdf; ComponentLink3Description: Package Specification; ComponentLink3URL: http://cds.linear.com/docs/en/packaging/05081610_G_SO8.pdf
footprint LT-MS8-8_N (SOP, 8-Leads, Body 3x3mm, Pitch 0.65mm, IPC Medium Density)
footprint LT-MS8-8_L (SOP, 8-Leads, Body 3x3mm, Pitch 0.65mm, IPC High Density)
footprint LT-MS8-8_M (SOP, 8-Leads, Body 3x3mm, Pitch 0.65mm, IPC Low Density)
pins: 1 NULL (in), 2 -IN (in), 3 +IN (in), 4 V- (power), 5 SHDN (in), 6 OUT (hiz), 7 V+ (power), 8 NULL (in)

## LT1637IMS8#TR
designator U?
Single Channel, High Voltage, Micropower Rail-to-Rail Operational Amplifier, 1 MHz Typical GBW, 0.35 V/us Typical SR, 1.8 to 44 V, 8-Pin SOP (MS8-8), Industrial, Reel; Linear Technology Part Number: LT1637; Manufacturer: Linear Technology; PartNumber: LT1637IMS8#TR; Channels (#): 1; Is (mA) Typical: 0.19; SR (V/us) Typical: 0.35; Vos (mV) Typical: 0.1; Vs Max (V): 44; Vs Min (V): 1.8; DatasheetVersion: Rev. D; PackageVersion: Rev G; PackageReference: LT-MS8-8; PackageDescription: 8-Lead Plastic Small Outline, Body 3.9 x 4.9 mm, Pitch 1.27 mm; GBW (MHz) Typical: 1; Packing: Reel; Type: VFB; Vos (mV) Guaranteed: 0.35; Mounting Technology: Surface Mount; ComponentLink1Description: Manufacturer URL; ComponentLink1URL: http://www.linear.com/; ComponentLink2Description: Datasheet; ComponentLink2URL: http://cds.linear.com/docs/en/datasheet/1637fd.pdf; ComponentLink3Description: Package Specification; ComponentLink3URL: http://cds.linear.com/docs/en/packaging/05081610_G_SO8.pdf
footprint LT-MS8-8_N (SOP, 8-Leads, Body 3x3mm, Pitch 0.65mm, IPC Medium Density)
footprint LT-MS8-8_L (SOP, 8-Leads, Body 3x3mm, Pitch 0.65mm, IPC High Density)
footprint LT-MS8-8_M (SOP, 8-Leads, Body 3x3mm, Pitch 0.65mm, IPC Low Density)
pins: 1 NULL (in), 2 -IN (in), 3 +IN (in), 4 V- (power), 5 SHDN (in), 6 OUT (hiz), 7 V+ (power), 8 NULL (in)

## LT1637IMS8#TRPBF
designator U?
Single Channel, High Voltage, Micropower Rail-to-Rail Operational Amplifier, 1 MHz Typical GBW, 0.35 V/us Typical SR, 1.8 to 44 V, 8-Pin SOP (MS8-8), Industrial, Pb-Free, Reel; Linear Technology Part Number: LT1637; Manufacturer: Linear Technology; PartNumber: LT1637IMS8#TRPBF; Channels (#): 1; Is (mA) Typical: 0.19; SR (V/us) Typical: 0.35; Vos (mV) Typical: 0.1; Vs Max (V): 44; Vs Min (V): 1.8; DatasheetVersion: Rev. D; PackageVersion: Rev G; PackageReference: LT-MS8-8; PackageDescription: 8-Lead Plastic Small Outline, Body 3.9 x 4.9 mm, Pitch 1.27 mm; Supplier 1: Digi-Key; Supplier Part Number 1: LT1637IMS8#TRPBF-ND; GBW (MHz) Typical: 1; Packing: Reel; RoHS: Pb-Free; Type: VFB; Vos (mV) Guaranteed: 0.35; Mounting Technology: Surface Mount; ComponentLink1Description: Manufacturer URL; ComponentLink1URL: http://www.linear.com/; ComponentLink2Description: Datasheet; ComponentLink2URL: http://cds.linear.com/docs/en/datasheet/1637fd.pdf; ComponentLink3Description: Package Specification; ComponentLink3URL: http://cds.linear.com/docs/en/packaging/05081610_G_SO8.pdf
footprint LT-MS8-8_N (SOP, 8-Leads, Body 3x3mm, Pitch 0.65mm, IPC Medium Density)
footprint LT-MS8-8_L (SOP, 8-Leads, Body 3x3mm, Pitch 0.65mm, IPC High Density)
footprint LT-MS8-8_M (SOP, 8-Leads, Body 3x3mm, Pitch 0.65mm, IPC Low Density)
pins: 1 NULL (in), 2 -IN (in), 3 +IN (in), 4 V- (power), 5 SHDN (in), 6 OUT (hiz), 7 V+ (power), 8 NULL (in)

## LT1637IN8
designator U?
Single Channel, High Voltage, Micropower Rail-to-Rail Operational Amplifier, 1 MHz Typical GBW, 0.35 V/us Typical SR, 1.8 to 44 V, 8-Pin DIP (N8-8), Industrial; Linear Technology Part Number: LT1637; Manufacturer: Linear Technology; PartNumber: LT1637IN8; Channels (#): 1; Is (mA) Typical: 0.19; SR (V/us) Typical: 0.35; Vos (mV) Typical: 0.1; Vs Max (V): 44; Vs Min (V): 1.8; DatasheetVersion: Rev. D; PackageVersion: Rev I; PackageReference: LT-N8-8; PackageDescription: 8-Lead PDIP, Body 10.16 x 6.48 mm, Pitch 2.54 mm; Supplier 1: Digi-Key; Supplier Part Number 1: LT1637IN8-ND; Supplier 2: Newark; Supplier Part Number 2: 57M5475; GBW (MHz) Typical: 1; Type: VFB; Vos (mV) Guaranteed: 0.35; Mounting Technology: Through Hole; ComponentLink1Description: Manufacturer URL; ComponentLink1URL: http://www.linear.com/; ComponentLink2Description: Datasheet; ComponentLink2URL: http://cds.linear.com/docs/en/datasheet/1637fd.pdf; ComponentLink3Description: Package Specification; ComponentLink3URL: http://cds.linear.com/docs/en/packaging/05081510_I_N8.pdf
footprint LT-N8-8 (DIP, 8-Leads, Body 10.16x6.48mm, Pitch 2.54mm)
pins: 1 NULL (in), 2 -IN (in), 3 +IN (in), 4 V- (power), 5 SHDN (in), 6 OUT (hiz), 7 V+ (power), 8 NULL (in)

## LT1637IN8#PBF
designator U?
Single Channel, High Voltage, Micropower Rail-to-Rail Operational Amplifier, 1 MHz Typical GBW, 0.35 V/us Typical SR, 1.8 to 44 V, 8-Pin DIP (N8-8), Industrial, Pb-Free; Linear Technology Part Number: LT1637; Manufacturer: Linear Technology; PartNumber: LT1637IN8#PBF; Channels (#): 1; Is (mA) Typical: 0.19; SR (V/us) Typical: 0.35; Vos (mV) Typical: 0.1; Vs Max (V): 44; Vs Min (V): 1.8; DatasheetVersion: Rev. D; PackageVersion: Rev I; PackageReference: LT-N8-8; PackageDescription: 8-Lead PDIP, Body 10.16 x 6.48 mm, Pitch 2.54 mm; Supplier 1: Digi-Key; Supplier Part Number 1: LT1637IN8#PBF-ND; Supplier 2: Newark; Supplier Part Number 2: 57M5476; GBW (MHz) Typical: 1; RoHS: Pb-Free; Type: VFB; Vos (mV) Guaranteed: 0.35; Mounting Technology: Surface Mount; ComponentLink1Description: Manufacturer URL; ComponentLink1URL: http://www.linear.com/; ComponentLink2Description: Datasheet; ComponentLink2URL: http://cds.linear.com/docs/en/datasheet/1637fd.pdf; ComponentLink3Description: Package Specification; ComponentLink3URL: http://cds.linear.com/docs/en/packaging/05081510_I_N8.pdf
footprint LT-N8-8 (DIP, 8-Leads, Body 10.16x6.48mm, Pitch 2.54mm)
pins: 1 NULL (in), 2 -IN (in), 3 +IN (in), 4 V- (power), 5 SHDN (in), 6 OUT (hiz), 7 V+ (power), 8 NULL (in)

## LT1637IS8
designator U?
Single Channel, High Voltage, Micropower Rail-to-Rail Operational Amplifier, 1 MHz Typical GBW, 0.35 V/us Typical SR, 1.8 to 44 V, 8-Pin SOIC (S8-8), Industrial; Linear Technology Part Number: LT1637; Manufacturer: Linear Technology; PartNumber: LT1637IS8; Channels (#): 1; Is (mA) Typical: 0.19; SR (V/us) Typical: 0.35; Vos (mV) Typical: 0.1; Vs Max (V): 44; Vs Min (V): 1.8; DatasheetVersion: Rev. D; PackageVersion: Rev G; PackageReference: LT-S8-8; PackageDescription: 8-Pin Plastic Small Outline, Body 4.9 x 3.9 mm, Pitch 1.27 mm; Supplier 1: Digi-Key; Supplier Part Number 1: LT1637IS8-ND; GBW (MHz) Typical: 1; Type: VFB; Vos (mV) Guaranteed: 0.35; Mounting Technology: Surface Mount; ComponentLink1Description: Manufacturer URL; ComponentLink1URL: http://www.linear.com/; ComponentLink2Description: Datasheet; ComponentLink2URL: http://cds.linear.com/docs/en/datasheet/1637fd.pdf; ComponentLink3Description: Package Specification; ComponentLink3URL: http://cds.linear.com/docs/en/packaging/05081610_G_SO8.pdf
footprint LT-S8-8_N (SOIC, 8-Leads, Body 4.9x3.9mm, Pitch 1.27mm, IPC Medium Density)
footprint LT-S8-8_L (SOIC, 8-Leads, Body 4.9x3.9mm, Pitch 1.27mm, IPC High Density)
footprint LT-S8-8_M (SOIC, 8-Leads, Body 4.9x3.9mm, Pitch 1.27mm, IPC Low Density)
pins: 1 NULL (in), 2 -IN (in), 3 +IN (in), 4 V- (power), 5 SHDN (in), 6 OUT (hiz), 7 V+ (power), 8 NULL (in)

## LT1637IS8#PBF
designator U?
Single Channel, High Voltage, Micropower Rail-to-Rail Operational Amplifier, 1 MHz Typical GBW, 0.35 V/us Typical SR, 1.8 to 44 V, 8-Pin SOIC (S8-8), Industrial, Pb-Free; Linear Technology Part Number: LT1637; Manufacturer: Linear Technology; PartNumber: LT1637IS8#PBF; Channels (#): 1; Is (mA) Typical: 0.19; SR (V/us) Typical: 0.35; Vos (mV) Typical: 0.1; Vs Max (V): 44; Vs Min (V): 1.8; DatasheetVersion: Rev. D; PackageVersion: Rev G; PackageReference: LT-S8-8; PackageDescription: 8-Pin Plastic Small Outline, Body 4.9 x 3.9 mm, Pitch 1.27 mm; Supplier 1: Digi-Key; Supplier Part Number 1: LT1637IS8#PBF-ND; Supplier 2: Newark; Supplier Part Number 2: 57M5478; GBW (MHz) Typical: 1; RoHS: Pb-Free; Type: VFB; Vos (mV) Guaranteed: 0.35; Mounting Technology: Surface Mount; ComponentLink1Description: Manufacturer URL; ComponentLink1URL: http://www.linear.com/; ComponentLink2Description: Datasheet; ComponentLink2URL: http://cds.linear.com/docs/en/datasheet/1637fd.pdf; ComponentLink3Description: Package Specification; ComponentLink3URL: http://cds.linear.com/docs/en/packaging/05081610_G_SO8.pdf
footprint LT-S8-8_N (SOIC, 8-Leads, Body 4.9x3.9mm, Pitch 1.27mm, IPC Medium Density)
footprint LT-S8-8_L (SOIC, 8-Leads, Body 4.9x3.9mm, Pitch 1.27mm, IPC High Density)
footprint LT-S8-8_M (SOIC, 8-Leads, Body 4.9x3.9mm, Pitch 1.27mm, IPC Low Density)
pins: 1 NULL (in), 2 -IN (in), 3 +IN (in), 4 V- (power), 5 SHDN (in), 6 OUT (hiz), 7 V+ (power), 8 NULL (in)

## LT1637IS8#TR
designator U?
Single Channel, High Voltage, Micropower Rail-to-Rail Operational Amplifier, 1 MHz Typical GBW, 0.35 V/us Typical SR, 1.8 to 44 V, 8-Pin SOIC (S8-8), Industrial, Reel; Linear Technology Part Number: LT1637; Manufacturer: Linear Technology; PartNumber: LT1637IS8#TR; Channels (#): 1; Is (mA) Typical: 0.19; SR (V/us) Typical: 0.35; Vos (mV) Typical: 0.1; Vs Max (V): 44; Vs Min (V): 1.8; DatasheetVersion: Rev. D; PackageVersion: Rev G; PackageReference: LT-S8-8; PackageDescription: 8-Pin Plastic Small Outline, Body 4.9 x 3.9 mm, Pitch 1.27 mm; Supplier 1: Digi-Key; Supplier Part Number 1: LT1637IS8#TR-ND; GBW (MHz) Typical: 1; Packing: Reel; Type: VFB; Vos (mV) Guaranteed: 0.35; Mounting Technology: Surface Mount; ComponentLink1Description: Manufacturer URL; ComponentLink1URL: http://www.linear.com/; ComponentLink2Description: Datasheet; ComponentLink2URL: http://cds.linear.com/docs/en/datasheet/1637fd.pdf; ComponentLink3Description: Package Specification; ComponentLink3URL: http://cds.linear.com/docs/en/packaging/05081610_G_SO8.pdf
footprint LT-S8-8_N (SOIC, 8-Leads, Body 4.9x3.9mm, Pitch 1.27mm, IPC Medium Density)
footprint LT-S8-8_L (SOIC, 8-Leads, Body 4.9x3.9mm, Pitch 1.27mm, IPC High Density)
footprint LT-S8-8_M (SOIC, 8-Leads, Body 4.9x3.9mm, Pitch 1.27mm, IPC Low Density)
pins: 1 NULL (in), 2 -IN (in), 3 +IN (in), 4 V- (power), 5 SHDN (in), 6 OUT (hiz), 7 V+ (power), 8 NULL (in)

## LT1637IS8#TRPBF
designator U?
Single Channel, High Voltage, Micropower Rail-to-Rail Operational Amplifier, 1 MHz Typical GBW, 0.35 V/us Typical SR, 1.8 to 44 V, 8-Pin SOIC (S8-8), Industrial, Pb-Free, Reel; Linear Technology Part Number: LT1637; Manufacturer: Linear Technology; PartNumber: LT1637IS8#TRPBF; Channels (#): 1; Is (mA) Typical: 0.19; SR (V/us) Typical: 0.35; Vos (mV) Typical: 0.1; Vs Max (V): 44; Vs Min (V): 1.8; DatasheetVersion: Rev. D; PackageVersion: Rev G; PackageReference: LT-S8-8; PackageDescription: 8-Pin Plastic Small Outline, Body 4.9 x 3.9 mm, Pitch 1.27 mm; Supplier 1: Digi-Key; Supplier Part Number 1: LT1637IS8#TRPBFTR-ND; Supplier 2: Digi-Key; Supplier Part Number 2: LT1637IS8#TRPBFCT-ND; Supplier 3: Digi-Key; Supplier Part Number 3: LT1637IS8#TRPBFDKR-ND; GBW (MHz) Typical: 1; Packing: Reel; RoHS: Pb-Free; Type: VFB; Vos (mV) Guaranteed: 0.35; Mounting Technology: Surface Mount; ComponentLink1Description: Manufacturer URL; ComponentLink1URL: http://www.linear.com/; ComponentLink2Description: Datasheet; ComponentLink2URL: http://cds.linear.com/docs/en/datasheet/1637fd.pdf; ComponentLink3Description: Package Specification; ComponentLink3URL: http://cds.linear.com/docs/en/packaging/05081610_G_SO8.pdf
footprint LT-S8-8_N (SOIC, 8-Leads, Body 4.9x3.9mm, Pitch 1.27mm, IPC Medium Density)
footprint LT-S8-8_L (SOIC, 8-Leads, Body 4.9x3.9mm, Pitch 1.27mm, IPC High Density)
footprint LT-S8-8_M (SOIC, 8-Leads, Body 4.9x3.9mm, Pitch 1.27mm, IPC Low Density)
pins: 1 NULL (in), 2 -IN (in), 3 +IN (in), 4 V- (power), 5 SHDN (in), 6 OUT (hiz), 7 V+ (power), 8 NULL (in)

## LT1637MPS8
designator U?
Single Channel, High Voltage, Micropower Rail-to-Rail Operational Amplifier, 1 MHz Typical GBW, 0.35 V/us Typical SR, 1.8 to 44 V, 8-Pin SOIC (S8-8), Military Plastic; Linear Technology Part Number: LT1637; Manufacturer: Linear Technology; PartNumber: LT1637MPS8; Channels (#): 1; Is (mA) Typical: 0.19; SR (V/us) Typical: 0.35; Vos (mV) Typical: 0.1; Vs Max (V): 44; Vs Min (V): 1.8; DatasheetVersion: Rev. D; PackageVersion: Rev G; PackageReference: LT-S8-8; PackageDescription: 8-Pin Plastic Small Outline, Body 4.9 x 3.9 mm, Pitch 1.27 mm; GBW (MHz) Typical: 1; Type: VFB; Vos (mV) Guaranteed: 0.35; Mounting Technology: Surface Mount; ComponentLink1Description: Manufacturer URL; ComponentLink1URL: http://www.linear.com/; ComponentLink2Description: Datasheet; ComponentLink2URL: http://cds.linear.com/docs/en/datasheet/1637fd.pdf; ComponentLink3Description: Package Specification; ComponentLink3URL: http://cds.linear.com/docs/en/packaging/05081610_G_SO8.pdf
footprint LT-S8-8_N (SOIC, 8-Leads, Body 4.9x3.9mm, Pitch 1.27mm, IPC Medium Density)
footprint LT-S8-8_L (SOIC, 8-Leads, Body 4.9x3.9mm, Pitch 1.27mm, IPC High Density)
footprint LT-S8-8_M (SOIC, 8-Leads, Body 4.9x3.9mm, Pitch 1.27mm, IPC Low Density)
pins: 1 NULL (in), 2 -IN (in), 3 +IN (in), 4 V- (power), 5 SHDN (in), 6 OUT (hiz), 7 V+ (power), 8 NULL (in)

## LT1637MPS8#PBF
designator U?
Single Channel, High Voltage, Micropower Rail-to-Rail Operational Amplifier, 1 MHz Typical GBW, 0.35 V/us Typical SR, 1.8 to 44 V, 8-Pin SOIC (S8-8), Military Plastic, Pb-Free; Linear Technology Part Number: LT1637; Manufacturer: Linear Technology; PartNumber: LT1637MPS8#PBF; Channels (#): 1; Is (mA) Typical: 0.19; SR (V/us) Typical: 0.35; Vos (mV) Typical: 0.1; Vs Max (V): 44; Vs Min (V): 1.8; DatasheetVersion: Rev. D; PackageVersion: Rev G; PackageReference: LT-S8-8; PackageDescription: 8-Pin Plastic Small Outline, Body 4.9 x 3.9 mm, Pitch 1.27 mm; Supplier 1: Digi-Key; Supplier Part Number 1: LT1637MPS8#PBF-ND; Supplier 2: Newark; Supplier Part Number 2: 57M5481; GBW (MHz) Typical: 1; RoHS: Pb-Free; Type: VFB; Vos (mV) Guaranteed: 0.35; Mounting Technology: Surface Mount; ComponentLink1Description: Manufacturer URL; ComponentLink1URL: http://www.linear.com/; ComponentLink2Description: Datasheet; ComponentLink2URL: http://cds.linear.com/docs/en/datasheet/1637fd.pdf; ComponentLink3Description: Package Specification; ComponentLink3URL: http://cds.linear.com/docs/en/packaging/05081610_G_SO8.pdf
footprint LT-S8-8_N (SOIC, 8-Leads, Body 4.9x3.9mm, Pitch 1.27mm, IPC Medium Density)
footprint LT-S8-8_L (SOIC, 8-Leads, Body 4.9x3.9mm, Pitch 1.27mm, IPC High Density)
footprint LT-S8-8_M (SOIC, 8-Leads, Body 4.9x3.9mm, Pitch 1.27mm, IPC Low Density)
pins: 1 NULL (in), 2 -IN (in), 3 +IN (in), 4 V- (power), 5 SHDN (in), 6 OUT (hiz), 7 V+ (power), 8 NULL (in)

## LT1637MPS8#TR
designator U?
Single Channel, High Voltage, Micropower Rail-to-Rail Operational Amplifier, 1 MHz Typical GBW, 0.35 V/us Typical SR, 1.8 to 44 V, 8-Pin SOIC (S8-8), Military Plastic, Reel; Linear Technology Part Number: LT1637; Manufacturer: Linear Technology; PartNumber: LT1637MPS8#TR; Channels (#): 1; Is (mA) Typical: 0.19; SR (V/us) Typical: 0.35; Vos (mV) Typical: 0.1; Vs Max (V): 44; Vs Min (V): 1.8; DatasheetVersion: Rev. D; PackageVersion: Rev G; PackageReference: LT-S8-8; PackageDescription: 8-Pin Plastic Small Outline, Body 4.9 x 3.9 mm, Pitch 1.27 mm; GBW (MHz) Typical: 1; Packing: Reel; Type: VFB; Vos (mV) Guaranteed: 0.35; Mounting Technology: Surface Mount; ComponentLink1Description: Manufacturer URL; ComponentLink1URL: http://www.linear.com/; ComponentLink2Description: Datasheet; ComponentLink2URL: http://cds.linear.com/docs/en/datasheet/1637fd.pdf; ComponentLink3Description: Package Specification; ComponentLink3URL: http://cds.linear.com/docs/en/packaging/05081610_G_SO8.pdf
footprint LT-S8-8_N (SOIC, 8-Leads, Body 4.9x3.9mm, Pitch 1.27mm, IPC Medium Density)
footprint LT-S8-8_L (SOIC, 8-Leads, Body 4.9x3.9mm, Pitch 1.27mm, IPC High Density)
footprint LT-S8-8_M (SOIC, 8-Leads, Body 4.9x3.9mm, Pitch 1.27mm, IPC Low Density)
pins: 1 NULL (in), 2 -IN (in), 3 +IN (in), 4 V- (power), 5 SHDN (in), 6 OUT (hiz), 7 V+ (power), 8 NULL (in)